# EAGLE library part EPG.1B.308.HLNS (library lplemo)
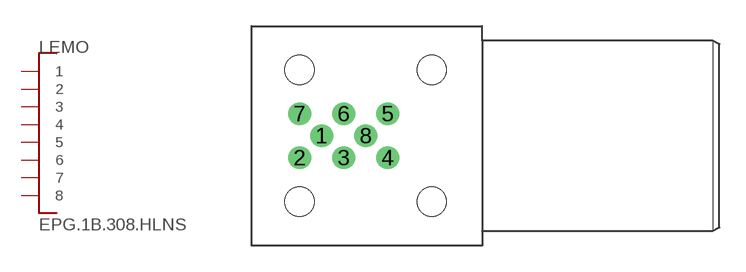
[diagram p25: symbol with the pads of P19-EPG-EXG-1B.308S; footprint P19-EPG-EXG-1B.308S]

Designator prefix LEMO

## EPG.1B.308.HLNS  [P19-EPG-EXG-1B.308S]
1  1
2  2
3  3
4  4
5  5
6  6
7  7
8  8

## Footprint P19-EPG-EXG-1B.308S (pad centres in mm)
drill 0.8 round: 1 -6.35,0; 2 -7.62,-1.27; 3 -5.08,-1.27; 4 -2.54,-1.27; 5 -2.54,1.27; 6 -5.08,1.27; 7 -7.62,1.27; 8 -3.81,0
hole 1.7 at -7.62,-3.81
hole 1.7 at 0,-3.81
hole 1.7 at 0,3.81
hole 1.7 at -7.62,3.81